# Altium footprint library ARK2 x8.PcbLib: 1 footprints
Each footprint in its own frame and in the unit in brackets; x right, y up, seen from the top. Pads: shape width x height; smd on the part's side, far side on the other; paste and mask are expansions set on the pad; w line width, h text height; cw(c..) or ccw(c..) is an arc to the next point about the centre after c.
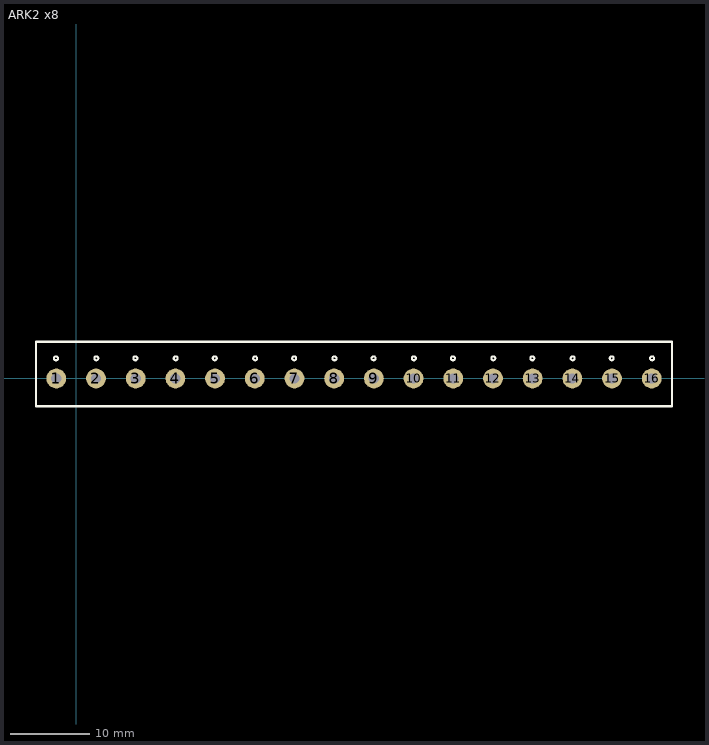
[diagram p0: the footprint, top view; thin cyan lines are the x and y axes]

## ARK2 x8 [mm]
pads (16):
  round 2.5 hole 1.3: 1(-2.5,0) 2(2.5,0) 3(7.5,0) 4(12.5,0) 5(17.5,0) 6(22.5,0) 7(27.5,0) 8(32.5,0) 9(37.5,0) 10(42.5,0) 11(47.5,0) 12(52.5,0) 13(57.5,0) 14(62.5,0) 15(67.5,0) 16(72.5,0)
Top Overlay:
  circle w0.254: c72.54,2.54 r0.254
  circle w0.254: c67.46,2.54 r0.254
  circle w0.254: c62.54,2.54 r0.254
  circle w0.254: c57.46,2.54 r0.254
  circle w0.254: c52.54,2.54 r0.254
  circle w0.254: c47.46,2.54 r0.254
  circle w0.254: c42.54,2.54 r0.254
  circle w0.254: c37.46,2.54 r0.254
  circle w0.254: c32.54,2.54 r0.254
  circle w0.254: c27.46,2.54 r0.254
  circle w0.254: c22.54,2.54 r0.254
  circle w0.254: c17.46,2.54 r0.254
  circle w0.254: c7.46,2.54 r0.254
  circle w0.254: c12.54,2.54 r0.254
  circle w0.254: c-2.54,2.54 r0.254
  circle w0.254: c2.54,2.54 r0.254
  lines w0.254: -5.08,-3.5 75.075,-3.5 75.075,4.625 -5.08,4.625 -5.08,-3.5
3D body "User Library-TB2.STEP": height 10.1, standoff -3.4, extent 65,-3.428 75,4.572
3D body "User Library-TB2.STEP": height 10.1, standoff -3.4, extent 55,-3.428 65,4.572
3D body "User Library-TB2.STEP": height 10.1, standoff -3.4, extent 45,-3.428 55,4.572
3D body "User Library-TB2.STEP": height 10.1, standoff -3.4, extent 35,-3.428 45,4.572
3D body "User Library-TB2.STEP": height 10.1, standoff -3.4, extent 25,-3.428 35,4.572
3D body "User Library-TB2.STEP": height 10.1, standoff -3.4, extent 15,-3.428 25,4.572
3D body "User Library-TB2.STEP": height 10.1, standoff -3.4, extent 5,-3.428 15,4.572
3D body "User Library-TB2.STEP": height 10.1, standoff -3.4, extent -5,-3.428 5,4.572